# Altium footprint library Powerboard 1.2.0.PcbLib: 15 footprints
Each footprint in its own frame and in the unit in brackets; x right, y up, seen from the top. Pads: shape width x height; smd on the part's side, far side on the other; paste and mask are expansions set on the pad; w line width, h text height; cw(c..) or ccw(c..) is an arc to the next point about the centre after c.
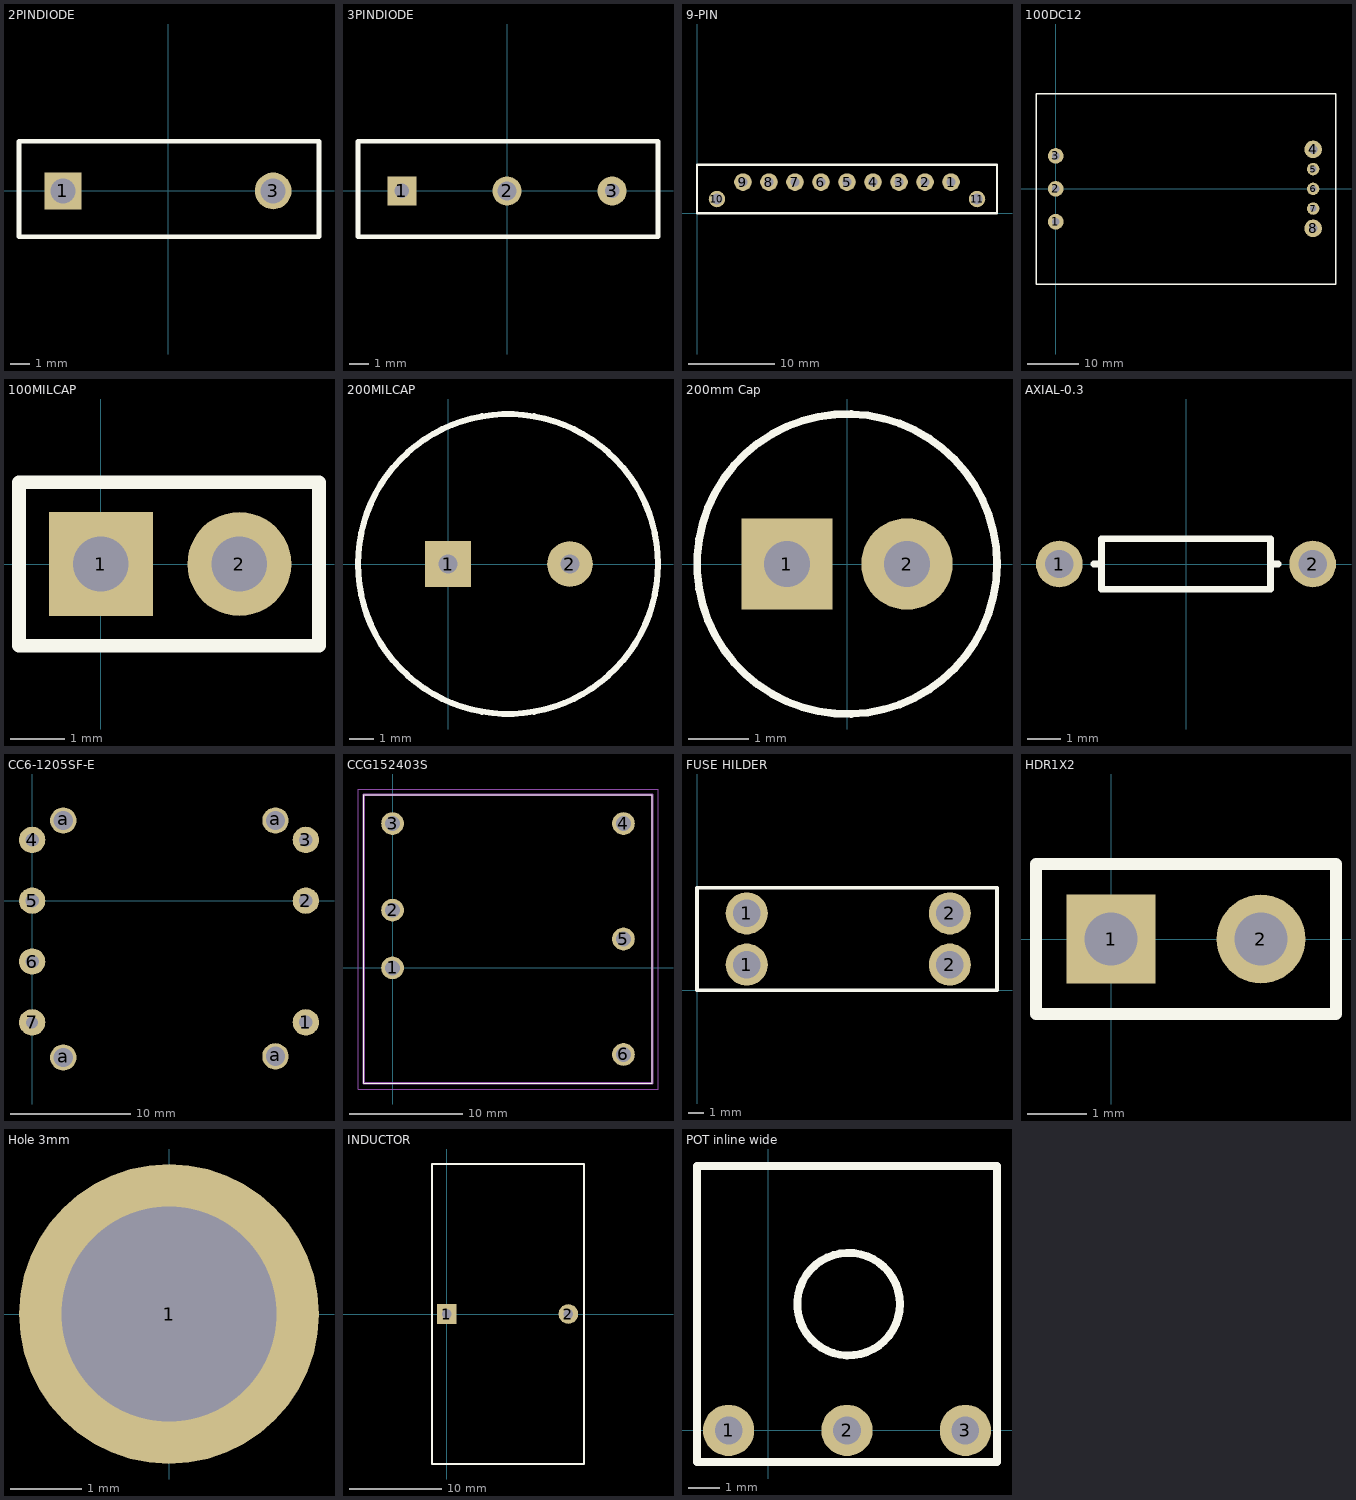
[diagram p0: the footprints below, top view; thin cyan lines are the x and y axes]

## 2PINDIODE [mm]
pads (2):
  rect 1.924x1.924 hole 1.3: 1(-5.5,0)
  round 1.924 hole 1.3: 3(5.5,0)
Top Overlay:
  lines w0.254: 7.8,2.6 -7.8,2.6 -7.8,-2.4 7.9,-2.4 7.9,2.6

## 3PINDIODE [mil]
pads (3):
  rect 60x60 hole 30: 1(-216.54,0)
  round 60 hole 38.98: 2(0,0)
  round 60 hole 30: 3(216.54,0)
Top Overlay:
  lines w10: 307.09,102.36 -307.09,102.36 -307.09,-94.49 311.02,-94.49 311.02,102.36

## 9-PIN [mil]
pads (11):
  round 80 hole 41: 1(1153.54,141.73)
  round 80 hole 40: 2(1035.43,141.73) 3(917.32,141.73) 4(799.21,141.73) 5(681.1,141.73) 6(562.99,141.73) 7(444.88,141.73) 8(326.77,141.73) 9(208.66,141.73)
  round 75 hole 50: 10(90.55,64.57) 11(1271.65,64.57)
Top Overlay:
  lines w10: 0,0 1362.2,0 1362.2,220.47 0,220.47 0,0

## 100DC12 [mm]
pads (8):
  round 3 hole 1.5: 1(0,-6.35) 2(0,0) 3(0,6.35)
  round 3.4 hole 1.7: 4(49.7,7.62) 8(49.7,-7.62)
  round 2.4 hole 1.2: 5(49.7,3.81) 6(49.7,0.01) 7(49.7,-3.81)
Top Overlay:
  lines w0.254: -3.81,-18.43 -3.81,18.37 54.1,18.37 54.1,-18.43 -3.81,-18.43

## 100MILCAP [mil]
pads (2):
  rect 75x75 hole 40: 1(0,0)
  round 75 hole 40: 2(100,0)
Top Overlay:
  lines w10: -59.06,-59.06 -59.06,59.06 157.48,59.06 157.48,-59.06 -59.06,-59.06

## 200MILCAP [mm]
pads (2):
  rect 1.905x1.905 hole 0.8: 1(0,0)
  round 1.905 hole 0.8: 2(5.08,0)
Top Overlay:
  circle w0.254: c2.5,0 r6.25

## 200mm Cap [mil]
pads (2):
  rect 60x60 hole 30 square: 1(-39.37,0)
  round 60 hole 30: 2(39.37,0)
Top Overlay:
  circle w5: c0,0 r98.43

## AXIAL-0.3 [mm]
pads (2):
  round 1.4 hole 0.85: 1(-3.81,0) 2(3.81,0)
Top Overlay:
  lines w0.2: -2.769,0 -2.54,0 ; 2.769,0 2.54,0 ; 2.54,0 2.54,-0.762 -2.54,-0.762 -2.54,0.762 2.54,0.762 2.54,0

## CC6-1205SF-E [mm]
pads (11):
  round 2.2 hole 1.1: 1(22.86,-10.16) 2(22.86,0) 3(22.86,5.08) 4(0,5.08) 5(0,0) 6(0,-5.08)
  round 2.2 hole 1: 7(0,-10.16)
  round 2.2 hole 1.6: a(2.6,-13.1) a(2.6,6.7) a(20.32,-13) a(20.32,6.7)
Bottom Overlay:
  lines w0.254: 0,-13.081 22.86,-13.081 22.86,6.731 0,6.731 0,-13.081

## CCG152403S [mm]
pads (6):
  round 2 hole 1.3: 1(0,0) 2(0,5.08) 3(0,12.7) 4(20.32,12.7) 5(20.32,2.54) 6(20.32,-7.62)
Top Overlay:
  lines w0.1: -2.54,-10.16 22.86,-10.16 22.86,15.24 -2.54,15.24 -2.54,-10.16
Mechanical 13:
  lines w0.2: -2.54,-10.16 22.86,-10.16 22.86,15.24 -2.54,15.24 -2.54,-10.16
Mechanical 15:
  lines w0.1: -3.04,-10.66 23.36,-10.66 23.36,15.74 -3.04,15.74 -3.04,-10.66
3D body "CCG152403S.stp": height 9.9, standoff -5, extent -2.54,-10.16 22.86,15.24

## FUSE HILDER [mil]
pads (4):
  round 110 hole 72: 1(129.92,66.93) 1(129.92,200.79) 2(660.24,66.93) 2(660.24,200.79)
Top Overlay:
  lines w10: 0,0 0,267.72 783.46,267.72 783.46,0 0,0

## HDR1X2 [mm]
pads (2):
  rect 1.5x1.5 hole 0.9: 1(0,0)
  round 1.5 hole 0.9: 2(2.54,0)
Top Overlay:
  lines w0.2: -1.27,-1.27 3.81,-1.27 3.81,1.27 -1.27,1.27 -1.27,-1.27

## Hole 3mm [mil]
pads (1):
  round 165 hole 118.11: 1(0,0)

## INDUCTOR [mm]
pads (2):
  rect 2.13x2.13 hole 1.067 mask+0.2: 1(0,0)
  round 2.13 hole 1.067 mask+0.7: 2(13.2,0)
Top Overlay:
  lines w0.254: -1.6,-16.3 -1.6,16.3 14.9,16.3 14.9,-16.3 -1.6,-16.3

## POT inline wide [mil]
pads (3):
  round 65 hole 35: 1(-50,0) 2(100,0) 3(250,0)
Top Overlay:
  circle w10: c102,160 r65
  lines w10: -90,-40 -90,335 290,335 290,-40 -90,-40